# Altium footprint library H7 100PIN 底板.PcbLib: 1 footprints
Each footprint in its own frame and in the unit in brackets; x right, y up, seen from the top. Pads: shape width x height; smd on the part's side, far side on the other; paste and mask are expansions set on the pad; w line width, h text height; cw(c..) or ccw(c..) is an arc to the next point about the centre after c.
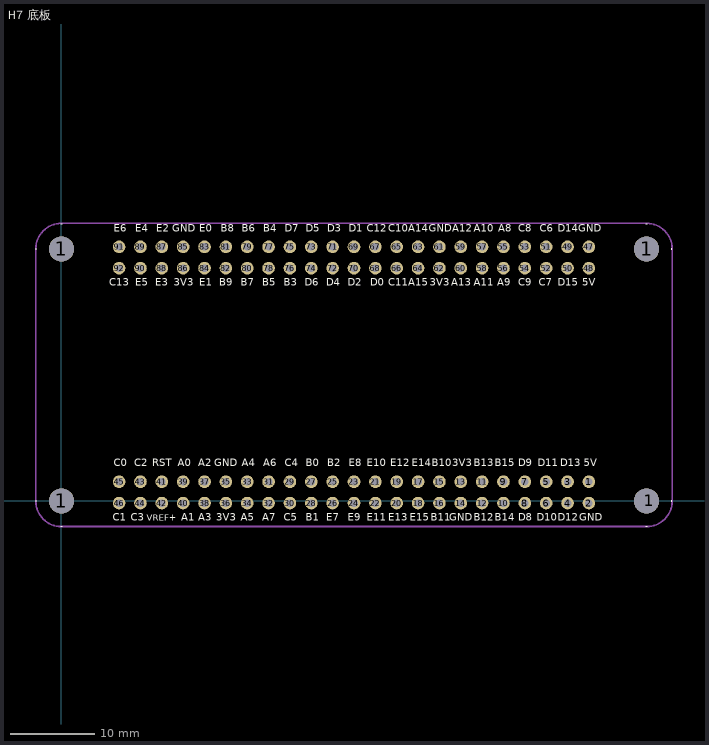
[diagram p0: the footprint, top view; thin cyan lines are the x and y axes]

## H7 底板 [mm]
pads (96):
  round 3 hole 3: 1(0,0) 1(0,29.972) 1(69.596,29.972) " 1"(69.596,0)
  round 1.5 hole 0.9: 1(62.738,2.286) 2(62.738,-0.254) 3(60.198,2.286) 4(60.198,-0.254) 5(57.658,2.286) 6(57.658,-0.254) 7(55.118,2.286) 8(55.118,-0.254) 9(52.578,2.286) 10(52.578,-0.254) 11(50.038,2.286) 12(50.038,-0.254) 13(47.498,2.286) 14(47.498,-0.254) 15(44.958,2.286) 16(44.958,-0.254) 17(42.418,2.286) 18(42.418,-0.254) 19(39.878,2.286) 20(39.878,-0.254) 21(37.338,2.286) 22(37.338,-0.254) 23(34.798,2.286) 24(34.798,-0.254) 25(32.258,2.286) 26(32.258,-0.254) 27(29.718,2.286) 28(29.718,-0.254) 29(27.178,2.286) 30(27.178,-0.254) 31(24.638,2.286) 32(24.638,-0.254) 33(22.098,2.286) 34(22.098,-0.254) 35(19.558,2.286) 36(19.558,-0.254) 37(17.018,2.286) 38(17.018,-0.254) 39(14.478,2.286) 40(14.478,-0.254) 41(11.938,2.286) 42(11.938,-0.254) 43(9.398,2.286) 44(9.398,-0.254) 45(6.858,2.286) 46(6.858,-0.254) 47(62.738,30.226) 48(62.738,27.686) 49(60.198,30.226) 50(60.198,27.686) 51(57.658,30.226) 52(57.658,27.686) 53(55.118,30.226) 54(55.118,27.686) 55(52.578,30.226) 56(52.578,27.686) 57(50.038,30.226) 58(50.038,27.686) 59(47.498,30.226) 60(47.498,27.686) 61(44.958,30.226) 62(44.958,27.686) 63(42.418,30.226) 64(42.418,27.686) 65(39.878,30.226) 66(39.878,27.686) 67(37.338,30.226) 68(37.338,27.686) 69(34.798,30.226) 70(34.798,27.686) 71(32.258,30.226) 72(32.258,27.686) 73(29.718,30.226) 74(29.718,27.686) 75(27.178,30.226) 76(27.178,27.686) 77(24.638,30.226) 78(24.638,27.686) 79(22.098,30.226) 80(22.098,27.686) 81(19.558,30.226) 82(19.558,27.686) 83(17.018,30.226) 84(17.018,27.686) 85(14.478,30.226) 86(14.478,27.686) 87(11.938,30.226) 88(11.938,27.686) 89(9.398,30.226) 90(9.398,27.686) 91(6.858,30.226) 92(6.858,27.686)
Top Overlay:
  lines w0.1: -3,-0.1 -3,0.1 ; -3,29.872 -3,30.072 ; -0.1,-3 0.1,-3 ; -0.1,32.972 0.1,32.972 ; 69.496,-3 69.696,-3 ; 69.496,32.972 69.696,32.972 ; 72.596,-0.1 72.596,0.1 ; 72.596,29.872 72.596,30.072
  text "GND" at 61.595,-2.667 h1.5
  text "D11" at 56.642,3.81 h1.5
  text "D13" at 59.309,3.81 h1.5
  text "3V3" at 46.482,3.81 h1.5
  text "B13" at 49.022,3.81 h1.5
  text "B15" at 51.562,3.81 h1.5
  text "D9" at 54.356,3.81 h1.5
  text "E10" at 36.322,3.81 h1.5
  text "E12" at 39.116,3.81 h1.5
  text "E14" at 41.656,3.81 h1.5
  text "B10" at 44.069,3.81 h1.5
  text "C4" at 26.543,3.81 h1.5
  text "B0" at 29.083,3.81 h1.5
  text "B2" at 31.623,3.81 h1.5
  text "E8" at 34.163,3.81 h1.5
  text "A2" at 16.256,3.81 h1.5
  text "GND" at 18.161,3.81 h1.5
  text "A4" at 21.463,3.81 h1.5
  text "A6" at 24.003,3.81 h1.5
  text "A0" at 13.843,3.81 h1.5
  text "RST" at 10.795,3.81 h1.5
  text "C2" at 8.636,3.81 h1.5
  text "D10" at 56.515,-2.667 h1.5
  text "D12" at 59.055,-2.667 h1.5
  text "GND" at 46.101,-2.667 h1.5
  text "B12" at 49.022,-2.667 h1.5
  text "B14" at 51.562,-2.667 h1.5
  text "D8" at 54.356,-2.667 h1.5
  text "E11" at 36.322,-2.667 h1.5
  text "E13" at 38.862,-2.667 h1.5
  text "E15" at 41.402,-2.667 h1.5
  text "B11" at 43.942,-2.667 h1.5
  text "C5" at 26.416,-2.667 h1.5
  text "B1" at 29.083,-2.667 h1.5
  text "E7" at 31.496,-2.667 h1.5
  text "E9" at 34.036,-2.667 h1.5
  text "A3" at 16.256,-2.667 h1.5
  text "3V3" at 18.415,-2.667 h1.5
  text "A5" at 21.336,-2.667 h1.5
  text "A7" at 23.876,-2.667 h1.5
  text "A1" at 14.224,-2.667 h1.5
  text "VREF+" at 10.16,-2.667 h1.3
  text "C3" at 8.255,-2.667 h1.5
  text "C1" at 6.096,-2.667 h1.5
  text "5V" at 62.103,3.81 h1.5
  text "C0" at 6.223,3.81 h1.5
  text "E6" at 6.223,31.75 h1.5
  text "E4" at 8.763,31.75 h1.5
  text "E2" at 11.303,31.75 h1.5
  text "GND" at 13.208,31.75 h1.5
  text "B4" at 24.003,31.75 h1.5
  text "B6" at 21.463,31.75 h1.5
  text "B8" at 18.923,31.75 h1.5
  text "E0" at 16.383,31.75 h1.5
  text "D1" at 34.163,31.75 h1.5
  text "D3" at 31.623,31.75 h1.5
  text "D5" at 29.083,31.75 h1.5
  text "D7" at 26.543,31.75 h1.5
  text "GND" at 43.688,31.75 h1.5
  text "A14" at 41.275,31.75 h1.5
  text "C10" at 38.862,31.75 h1.5
  text "C12" at 36.322,31.75 h1.5
  text "C8" at 54.356,31.75 h1.5
  text "A8" at 51.943,31.75 h1.5
  text "A10" at 49.022,31.75 h1.5
  text "A12" at 46.482,31.75 h1.5
  text "D14" at 59.055,31.75 h1.5
  text "C6" at 56.896,31.75 h1.5
  text "C7" at 56.769,25.273 h1.5
  text "D15" at 59.055,25.273 h1.5
  text "A13" at 46.355,25.273 h1.5
  text "A11" at 49.022,25.273 h1.5
  text "A9" at 51.816,25.273 h1.5
  text "C9" at 54.356,25.273 h1.5
  text "D0" at 36.703,25.273 h1.5
  text "C11" at 38.862,25.273 h1.5
  text "A15" at 41.275,25.273 h1.5
  text "3V3" at 43.815,25.273 h1.5
  text "B3" at 26.416,25.273 h1.5
  text "D6" at 28.956,25.273 h1.5
  text "D4" at 31.496,25.273 h1.5
  text "D2" at 34.036,25.273 h1.5
  text "E1" at 16.383,25.273 h1.5
  text "B9" at 18.796,25.273 h1.5
  text "B7" at 21.336,25.273 h1.5
  text "B5" at 23.876,25.273 h1.5
  text "3V3" at 13.335,25.273 h1.5
  text "E3" at 11.176,25.273 h1.5
  text "E5" at 8.763,25.273 h1.5
  text "C13" at 5.715,25.273 h1.5
  text "5V" at 61.976,25.273 h1.5
  text "GND" at 61.468,31.75 h1.5
Bottom Overlay:
  text "C0" at 7.747,3.81 h1.5
  text "A2" at 17.78,3.81 h1.5
  text "C4" at 28.067,3.81 h1.5
  text "C1" at 7.493,-2.667 h1.5
  text "A3" at 17.78,-2.667 h1.5
  text "C5" at 27.94,-2.667 h1.5
  text "C2" at 10.033,3.81 h1.5
  text "A0" at 15.367,3.81 h1.5
  text "A4" at 22.86,3.81 h1.5
  text "A6" at 25.527,3.81 h1.5
  text "B0" at 30.48,3.81 h1.5
  text "B2" at 33.02,3.81 h1.5
  text "E10" at 38.481,3.81 h1.5
  text "E12" at 41.275,3.81 h1.5
  text "3V3" at 48.768,3.81 h1.5
  text "B13" at 51.181,3.81 h1.5
  text "D11" at 58.674,3.81 h1.5
  text "B15" at 53.721,3.81 h1.5
  text "D9" at 55.88,3.81 h1.5
  text "5V" at 63.5,3.81 h1.5
  text "C3" at 9.906,-2.667 h1.5
  text "A1" at 15.494,-2.667 h1.5
  text "A5" at 22.86,-2.667 h1.5
  text "A7" at 25.4,-2.667 h1.5
  text "B1" at 30.353,-2.667 h1.5
  text "E7" at 32.893,-2.667 h1.5
  text "E11" at 38.354,-2.667 h1.5
  text "E13" at 41.021,-2.667 h1.5
  text "GND" at 48.895,-2.667 h1.5
  text "B12" at 51.181,-2.667 h1.5
  text "B11" at 45.847,-2.667 h1.5
  text "D10" at 58.801,-2.667 h1.5
  text "B14" at 53.721,-2.667 h1.5
  text "D8" at 55.88,-2.667 h1.5
  text "GND" at 64.389,-2.667 h1.5
  text "GND" at 20.955,3.81 h1.5
  text "RST" at 13.208,3.81 h1.5
  text "D13" at 61.341,3.81 h1.5
  text "E14" at 43.688,3.81 h1.5
  text "E8" at 35.56,3.81 h1.5
  text "3V3" at 20.701,-2.667 h1.5
  text "VREF+" at 13.843,-2.667 h1.3
  text "D12" at 61.341,-2.667 h1.5
  text "E15" at 43.561,-2.667 h1.5
  text "E9" at 35.433,-2.667 h1.5
  text "B10" at 46.228,3.81 h1.5
  text "E4" at 10.16,31.75 h1.5
  text "B8" at 20.447,31.75 h1.5
  text "D5" at 30.48,31.75 h1.5
  text "E5" at 10.287,25.273 h1.5
  text "B9" at 20.32,25.273 h1.5
  text "D6" at 30.607,25.273 h1.5
  text "E6" at 7.62,31.75 h1.5
  text "GND" at 16.129,31.75 h1.5
  text "E2" at 12.7,31.75 h1.5
  text "B6" at 22.86,31.75 h1.5
  text "B4" at 25.4,31.75 h1.5
  text "D7" at 27.94,31.75 h1.5
  text "D3" at 33.147,31.75 h1.5
  text "C12" at 38.481,31.75 h1.5
  text "C10" at 41.021,31.75 h1.5
  text "D1" at 35.433,31.75 h1.5
  text "A12" at 48.768,31.75 h1.5
  text "GND" at 46.355,31.75 h1.5
  text "A8" at 53.594,31.75 h1.5
  text "C8" at 56.007,31.75 h1.5
  text "GND" at 64.389,31.75 h1.5
  text "D14" at 61.214,31.75 h1.5
  text "C13" at 8.128,25.273 h1.5
  text "E3" at 12.7,25.273 h1.5
  text "3V3" at 15.621,25.273 h1.5
  text "B5" at 25.4,25.273 h1.5
  text "B7" at 22.86,25.273 h1.5
  text "D4" at 33.02,25.273 h1.5
  text "B3" at 27.94,25.273 h1.5
  text "D2" at 35.56,25.273 h1.5
  text "C11" at 41.021,25.273 h1.5
  text "D0" at 38.1,25.273 h1.5
  text "3V3" at 46.101,25.273 h1.5
  text "A13" at 48.895,25.273 h1.5
  text "C9" at 56.007,25.273 h1.5
  text "A9" at 53.467,25.273 h1.5
  text "5V" at 63.627,25.273 h1.5
  text "D15" at 61.341,25.273 h1.5
  text "E0" at 17.78,31.75 h1.5
  text "C6" at 58.547,31.75 h1.5
  text "A10" at 51.308,31.75 h1.5
  text "A14" at 43.434,31.75 h1.5
  text "E1" at 17.653,25.273 h1.5
  text "A15" at 43.688,25.273 h1.5
  text "A11" at 51.308,25.273 h1.5
  text "C7" at 58.42,25.273 h1.5
Mechanical 1:
  lines w0.2: -3.048,29.998 cw(c-0.026,29.998) -0.026,33.02 0,33.02 69.622,33.02 cw(c69.622,29.998) 72.644,29.998 ; -3.048,29.998 -3.048,29.998 ; -3.048,29.998 -3.048,-0.026 ccw(c-0.026,-0.026) -0.026,-3.048 69.609,-3.048 ccw(c69.609,-0.013) 72.644,-0.013 72.644,29.998 ; 72.644,29.998 72.644,29.998